# Altium integrated library WE-SL2 SMD Common Mode Line Filter.IntLib: 14 symbols
Pins are listed as number, name and electrical type; pins without a type are passive.

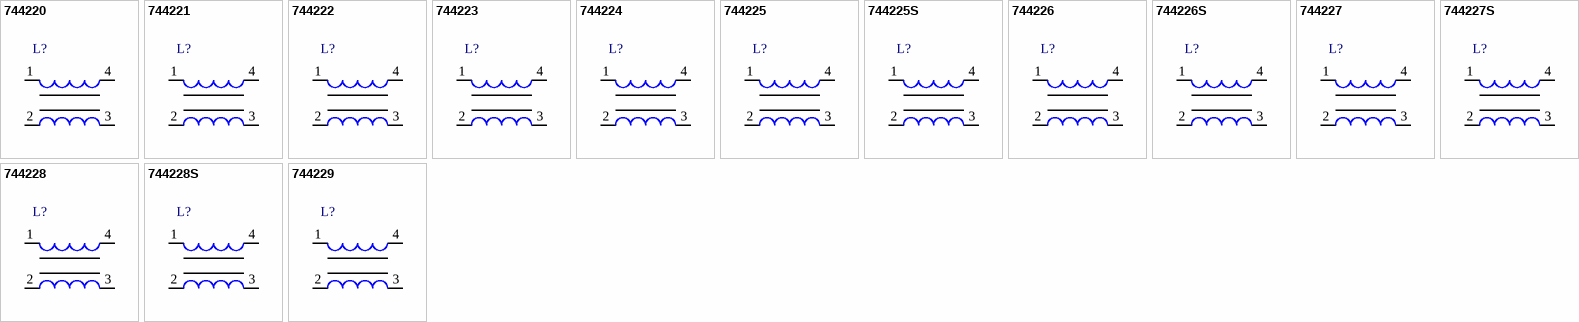
[diagram p0: symbols 744220 to 744229]

## 744220
designator L?
SMD Common Mode Line Filter WE-SL2, L = 4700 µH; PartNumber: 744220; Inductance: 4700 µH; DatasheetVersion: ver 6, Mar-2010; PackageReference: WE-SL2; PackageDescription: SMD Inductor, 4-Leads, Body 6.3 x 9.5 mm; ComponentLink1Description: Manufacturer URL; ComponentLink1URL: http://www.we-online.com; ComponentLink2Description: Datasheet; ComponentLink2URL: http://www.we-online.de/katalog/media/pdf/744220.pdf
footprint WE-SL2 (SMD Inductor, 4-Leads, Body 6.3x9.5x5.3 mm)
pins: 1, 2, 3, 4

## 744221
designator L?
SMD Common Mode Line Filter WE-SL2, L = 2000 µH; PartNumber: 744221; Inductance: 2000 µH; DatasheetVersion: ver 5, Oct-2004; PackageReference: WE-SL2; PackageDescription: SMD Inductor, 4-Leads, Body 6.3 x 9.5 mm; ComponentLink1Description: Manufacturer URL; ComponentLink1URL: http://www.we-online.com; ComponentLink2Description: Datasheet; ComponentLink2URL: http://www.we-online.de/katalog/media/pdf/744221.pdf
footprint WE-SL2 (SMD Inductor, 4-Leads, Body 6.3x9.5x5.3 mm)
pins: 1, 2, 3, 4

## 744222
designator L?
SMD Common Mode Line Filter WE-SL2, L = 1000 µH; PartNumber: 744222; Inductance: 1000 µH; DatasheetVersion: ver 5, Oct-2004; PackageReference: WE-SL2; PackageDescription: SMD Inductor, 4-Leads, Body 6.3 x 9.5 mm; ComponentLink1Description: Manufacturer URL; ComponentLink1URL: http://www.we-online.com; ComponentLink2Description: Datasheet; ComponentLink2URL: http://www.we-online.de/katalog/media/pdf/744222.pdf
footprint WE-SL2 (SMD Inductor, 4-Leads, Body 6.3x9.5x5.3 mm)
pins: 1, 2, 3, 4

## 744223
designator L?
SMD Common Mode Line Filter WE-SL2, L = 500 µH; PartNumber: 744223; Inductance: 500 µH; DatasheetVersion: ver 5, Oct-2004; PackageReference: WE-SL2; PackageDescription: SMD Inductor, 4-Leads, Body 6.3 x 9.5 mm; ComponentLink1Description: Manufacturer URL; ComponentLink1URL: http://www.we-online.com; ComponentLink2Description: Datasheet; ComponentLink2URL: http://www.we-online.de/katalog/media/pdf/744223.pdf
footprint WE-SL2 (SMD Inductor, 4-Leads, Body 6.3x9.5x5.3 mm)
pins: 1, 2, 3, 4

## 744224
designator L?
SMD Common Mode Line Filter WE-SL2, L = 250 µH; PartNumber: 744224; Inductance: 250 µH; DatasheetVersion: ver 5, Oct-2004; PackageReference: WE-SL2; PackageDescription: SMD Inductor, 4-Leads, Body 6.3 x 9.5 mm; ComponentLink1Description: Manufacturer URL; ComponentLink1URL: http://www.we-online.com; ComponentLink2Description: Datasheet; ComponentLink2URL: http://www.we-online.de/katalog/media/pdf/744224.pdf
footprint WE-SL2 (SMD Inductor, 4-Leads, Body 6.3x9.5x5.3 mm)
pins: 1, 2, 3, 4

## 744225
designator L?
SMD Common Mode Line Filter WE-SL2, L = 40.0 µH; PartNumber: 744225; Inductance: 40.0 µH; DatasheetVersion: ver 7, Oct-2004; PackageReference: WE-SL2; PackageDescription: SMD Inductor, 4-Leads, Body 6.3 x 9.5 mm; ComponentLink1Description: Manufacturer URL; ComponentLink1URL: http://www.we-online.com; ComponentLink2Description: Datasheet; ComponentLink2URL: http://www.we-online.de/katalog/media/pdf/744225.pdf
footprint WE-SL2 (SMD Inductor, 4-Leads, Body 6.3x9.5x5.3 mm)
pins: 1, 2, 3, 4

## 744225S
designator L?
SMD Common Mode Line Filter WE-SL2, L = 40.0 µH; PartNumber: 744225S; Inductance: 40.0 µH; DatasheetVersion: ver 7, Oct-2004; PackageReference: WE-SL2; PackageDescription: SMD Inductor, 4-Leads, Body 6.3 x 9.5 mm; ComponentLink1Description: Manufacturer URL; ComponentLink1URL: http://www.we-online.com; ComponentLink2Description: Datasheet; ComponentLink2URL: http://www.we-online.de/katalog/media/pdf/744225S.pdf
footprint WE-SL2 (SMD Inductor, 4-Leads, Body 6.3x9.5x5.3 mm)
pins: 1, 2, 3, 4

## 744226
designator L?
SMD Common Mode Line Filter WE-SL2, L = 10.0 µH; PartNumber: 744226; Inductance: 10.0 µH; DatasheetVersion: ver 7, Oct-2004; PackageReference: WE-SL2; PackageDescription: SMD Inductor, 4-Leads, Body 6.3 x 9.5 mm; ComponentLink1Description: Manufacturer URL; ComponentLink1URL: http://www.we-online.com; ComponentLink2Description: Datasheet; ComponentLink2URL: http://www.we-online.de/katalog/media/pdf/744226.pdf
footprint WE-SL2 (SMD Inductor, 4-Leads, Body 6.3x9.5x5.3 mm)
pins: 1, 2, 3, 4

## 744226S
designator L?
SMD Common Mode Line Filter WE-SL2, L = 10.0 µH; PartNumber: 744226S; Inductance: 10.0 µH; DatasheetVersion: ver 7, Oct-2004; PackageReference: WE-SL2; PackageDescription: SMD Inductor, 4-Leads, Body 6.3 x 9.5 mm; ComponentLink1Description: Manufacturer URL; ComponentLink1URL: http://www.we-online.com; ComponentLink2Description: Datasheet; ComponentLink2URL: http://www.we-online.de/katalog/media/pdf/744226S.pdf
footprint WE-SL2 (SMD Inductor, 4-Leads, Body 6.3x9.5x5.3 mm)
pins: 1, 2, 3, 4

## 744227
designator L?
SMD Common Mode Line Filter WE-SL2, L = 51.0 µH; PartNumber: 744227; Inductance: 51.0 µH; DatasheetVersion: ver 7, Oct-2004; PackageReference: WE-SL2; PackageDescription: SMD Inductor, 4-Leads, Body 6.3 x 9.5 mm; ComponentLink1Description: Manufacturer URL; ComponentLink1URL: http://www.we-online.com; ComponentLink2Description: Datasheet; ComponentLink2URL: http://www.we-online.de/katalog/media/pdf/744227.pdf
footprint WE-SL2 (SMD Inductor, 4-Leads, Body 6.3x9.5x5.3 mm)
pins: 1, 2, 3, 4

## 744227S
designator L?
SMD Common Mode Line Filter WE-SL2, L = 51.0 µH; PartNumber: 744227S; Inductance: 51.0 µH; DatasheetVersion: ver 7, Oct-2004; PackageReference: WE-SL2; PackageDescription: SMD Inductor, 4-Leads, Body 6.3 x 9.5 mm; ComponentLink1Description: Manufacturer URL; ComponentLink1URL: http://www.we-online.com; ComponentLink2Description: Datasheet; ComponentLink2URL: http://www.we-online.de/katalog/media/pdf/744227S.pdf
footprint WE-SL2 (SMD Inductor, 4-Leads, Body 6.3x9.5x5.3 mm)
pins: 1, 2, 3, 4

## 744228
designator L?
SMD Common Mode Line Filter WE-SL2, L = 25.0 µH; PartNumber: 744228; Inductance: 25.0 µH; DatasheetVersion: ver 7, Oct-2004; PackageReference: WE-SL2; PackageDescription: SMD Inductor, 4-Leads, Body 6.3 x 9.5 mm; ComponentLink1Description: Manufacturer URL; ComponentLink1URL: http://www.we-online.com; ComponentLink2Description: Datasheet; ComponentLink2URL: http://www.we-online.de/katalog/media/pdf/744228.pdf
footprint WE-SL2 (SMD Inductor, 4-Leads, Body 6.3x9.5x5.3 mm)
pins: 1, 2, 3, 4

## 744228S
designator L?
SMD Common Mode Line Filter WE-SL2, L = 25.0 µH; PartNumber: 744228S; Inductance: 25.0 µH; DatasheetVersion: ver 7, Oct-2004; PackageReference: WE-SL2; PackageDescription: SMD Inductor, 4-Leads, Body 6.3 x 9.5 mm; ComponentLink1Description: Manufacturer URL; ComponentLink1URL: http://www.we-online.com; ComponentLink2Description: Datasheet; ComponentLink2URL: http://www.we-online.de/katalog/media/pdf/744228S.pdf
footprint WE-SL2 (SMD Inductor, 4-Leads, Body 6.3x9.5x5.3 mm)
pins: 1, 2, 3, 4

## 744229
designator L?
SMD Common Mode Line Filter WE-SL2, L = 6500 µH; PartNumber: 744229; Inductance: 6500 µH; DatasheetVersion: ver 6, Mar-2010; PackageReference: WE-SL2; PackageDescription: SMD Inductor, 4-Leads, Body 6.3 x 9.5 mm; ComponentLink1Description: Manufacturer URL; ComponentLink1URL: http://www.we-online.com; ComponentLink2Description: Datasheet; ComponentLink2URL: http://www.we-online.de/katalog/media/pdf/744229.pdf
footprint WE-SL2 (SMD Inductor, 4-Leads, Body 6.3x9.5x5.3 mm)
pins: 1, 2, 3, 4